# EAGLE library part ENC424J600 (library microchip-ethernet)
Stand-Alone 10/100 Ethernet Controller with SPI or Parallel Interface The ENC424J600 and ENC624J600 are stand-alone,Fast Ethernet controllers with an industry standard Serial Peripheral Interface (SPI) or a flexible parallel interface. They are designed to serve as an Ethernet network interface for any microcontroller equipped with SPI or a standard parallel port. ENC424J600/624J600 devices meet all of the IEEE 802.3 specifications applicable to 10Base-T and 100Base-TX Ethernet, including many optional clauses, such as auto-negotiation. They incorporate a number of packet filtering schemes to limit incoming packets. They also provide an internal, 16-bit wide DMA for fast data throughput and support for hardware IP checksum calculations. For applications that require the security and authentication features of SSL, TLS and other protocols related to cryptography, a block of security engines is provided. The engines perform RSA, Diffie-Hellman, AES, MD5 and SHA-1 algorithm computations, allowing reduced code size, faster connection establishment and throughput, and reduced firmware development effort.
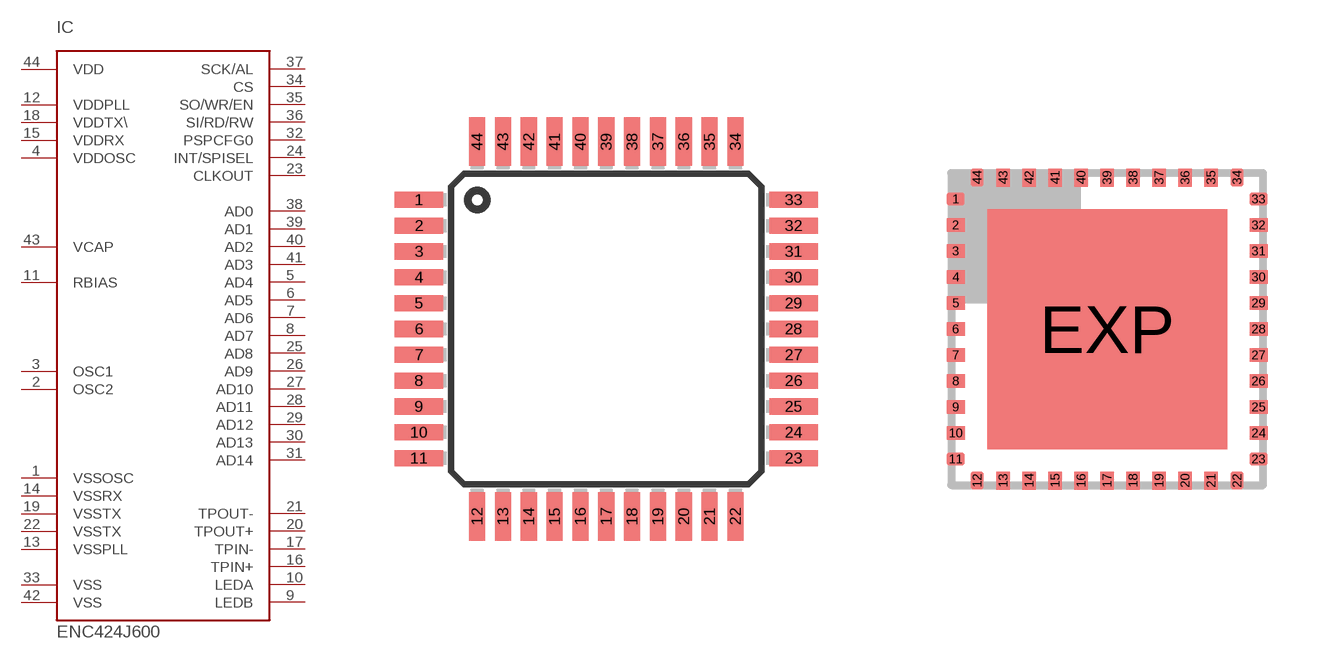
[diagram p0: symbol with the pads of TQFP44; footprints TQFP44, QFN44]

Designator prefix IC

## ENC424J600-I/PT  [TQFP44]
1  VSSOSC  pwr
2  OSC2
3  OSC1
4  VDDOSC  pwr
5  AD4
6  AD5
7  AD6
8  AD7
9  LEDB  out
10  LEDA  out
11  RBIAS
12  VDDPLL  pwr
13  VSSPLL  pwr
14  VSSRX  pwr
15  VDDRX  pwr
16  TPIN+  in
17  TPIN-  in
18  VDDTX\  pwr
19  VSSTX  pwr
20  TPOUT+  out
21  TPOUT-  out
22  VSSTX  pwr
23  CLKOUT  out
24  INT/SPISEL
25  AD8
26  AD9
27  AD10
28  AD11
29  AD12
30  AD13
31  AD14
32  PSPCFG0  in
33  VSS  pwr
34  CS  in
35  SO/WR/EN
36  SI/RD/RW
37  SCK/AL  in
38  AD0
39  AD1
40  AD2
41  AD3
42  VSS  pwr
43  VCAP
44  VDD  pwr

## ENC424J600-I/ML  [QFN44]
Pads as for TQFP44

## Footprint TQFP44 (pad centres in mm)
44-Lead Thin Quad Flat Package (Package Type PT)
smd 1.5 x 0.5: 1 -5.8,4; 2 -5.8,3.2; 3 -5.8,2.4; 4 -5.8,1.6; 5 -5.8,0.8; 6 -5.8,0; 7 -5.8,-0.8; 8 -5.8,-1.6; 9 -5.8,-2.4; 10 -5.8,-3.2; 11 -5.8,-4; 23 5.8,-4; 24 5.8,-3.2; 25 5.8,-2.4; 26 5.8,-1.6; 27 5.8,-0.8; 28 5.8,0; 29 5.8,0.8; 30 5.8,1.6; 31 5.8,2.4; 32 5.8,3.2; 33 5.8,4
smd 0.5 x 1.5: 12 -4,-5.8; 13 -3.2,-5.8; 14 -2.4,-5.8; 15 -1.6,-5.8; 16 -0.8,-5.8; 17 0,-5.8; 18 0.8,-5.8; 19 1.6,-5.8; 20 2.4,-5.8; 21 3.2,-5.8; 22 4,-5.8; 34 4,5.8; 35 3.2,5.8; 36 2.4,5.8; 37 1.6,5.8; 38 0.8,5.8; 39 0,5.8; 40 -0.8,5.8; 41 -1.6,5.8; 42 -2.4,5.8; 43 -3.2,5.8; 44 -4,5.8

## Footprint QFN44 (pad centres in mm)
44-Lead Quad Flat No-Lead Package (Package Type ML)
smd 0.45 x 0.33: 1 -3.788,3.25; 2 -3.788,2.6; 3 -3.788,1.95; 4 -3.788,1.3; 5 -3.788,0.65; 6 -3.788,0; 7 -3.788,-0.65; 8 -3.788,-1.3; 9 -3.788,-1.95; 10 -3.788,-2.6; 11 -3.788,-3.25; 23 3.788,-3.25; 24 3.788,-2.6; 25 3.788,-1.95; 26 3.788,-1.3; 27 3.788,-0.65; 28 3.788,0; 29 3.788,0.65; 30 3.788,1.3; 31 3.788,1.95; 32 3.788,2.6; 33 3.788,3.25
smd 0.33 x 0.45: 12 -3.25,-3.788; 13 -2.6,-3.788; 14 -1.95,-3.788; 15 -1.3,-3.788; 16 -0.65,-3.788; 17 0,-3.788; 18 0.65,-3.788; 19 1.3,-3.788; 20 1.95,-3.788; 21 2.6,-3.788; 22 3.25,-3.788; 34 3.25,3.788; 35 2.6,3.788; 36 1.95,3.788; 37 1.3,3.788; 38 0.65,3.788; 39 0,3.788; 40 -0.65,3.788; 41 -1.3,3.788; 42 -1.95,3.788; 43 -2.6,3.788; 44 -3.25,3.788
smd 6 x 6: EXP 0,0